# Altium schematic symbol library LT3750EMS.SchLib: 1 symbol
Pins are listed as number, name and electrical type; pins without a type are passive.

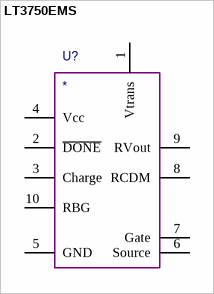
[diagram p0: symbol LT3750EMS]

## LT3750EMS
designator U?
pins: 1 Vtrans, 2 ~{DONE}, 3 Charge, 4 Vcc, 5 GND, 6 Source, 7 Gate, 8 RCDM, 9 RVout, 10 RBG